# Altium schematic symbol library RNCF0603TKY1K00.SchLib: 1 symbol
Pins are listed as number, name and electrical type; pins without a type are passive.

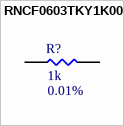
[diagram p0: symbol RNCF0603TKY1K00]

## RNCF0603TKY1K00
designator R?  Resistance: 1k  Tolerance: 0.01%  (hidden comment: RNCF0603TKY1K00)
RES 1K OHM 0.01% 1/10W 0603; MFR: Stackpole Electronics Inc; Power Rating: 0.1W; PN: RNCF0603TKY1K00; Footprint: RES0603; Package: 0603; ComponentLink1Description: Datasheet; ComponentLink1URL: https://www.seielect.com/catalog/sei-rncf.pdf; Supplier 1: Digi-Key; Supplier Part Number 1: RNCF0603TKY1K00CT-ND
footprint RES0603 (Generic 0603)
pins: 1, 2